# Altium footprint library MMC5603NJ.PcbLib: 1 footprints
Each footprint in its own frame and in the unit in brackets; x right, y up, seen from the top. Pads: shape width x height; smd on the part's side, far side on the other; paste and mask are expansions set on the pad; w line width, h text height; cw(c..) or ccw(c..) is an arc to the next point about the centre after c.
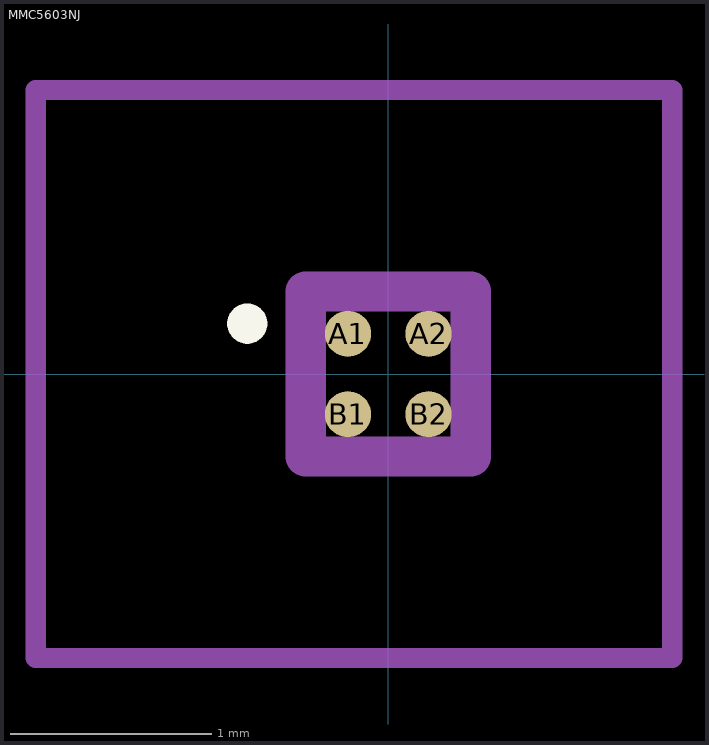
[diagram p0: the footprint, top view; thin cyan lines are the x and y axes]

## MMC5603NJ [mm]
pads (4):
  round 0.23 smd: A1(-0.2,0.2) A2(0.2,0.2) B1(-0.2,-0.2) B2(0.2,-0.2)
Top Overlay:
  lines w0.1: -0.7,0.2 -0.7,0.2 ; -0.7,0.2 ccw(c-0.7,0.25) -0.7,0.3 ; -0.7,0.2 cw(c-0.7,0.25) -0.7,0.3 ; -0.7,0.3 -0.7,0.3
Mechanical 15:
  lines w0.2: -0.41,-0.41 0.41,-0.41 0.41,0.41 -0.41,0.41 -0.41,-0.41
Mechanical 20:
  lines w0.1: -1.75,-1.41 1.41,-1.41 1.41,1.41 -1.75,1.41 -1.75,-1.41